# Altium footprint library Connectors.PcbLib: 32 footprints (part 1 of 2)
Each footprint in its own frame and in the unit in brackets; x right, y up, seen from the top. Pads: shape width x height; smd on the part's side, far side on the other; paste and mask are expansions set on the pad; w line width, h text height; cw(c..) or ccw(c..) is an arc to the next point about the centre after c.
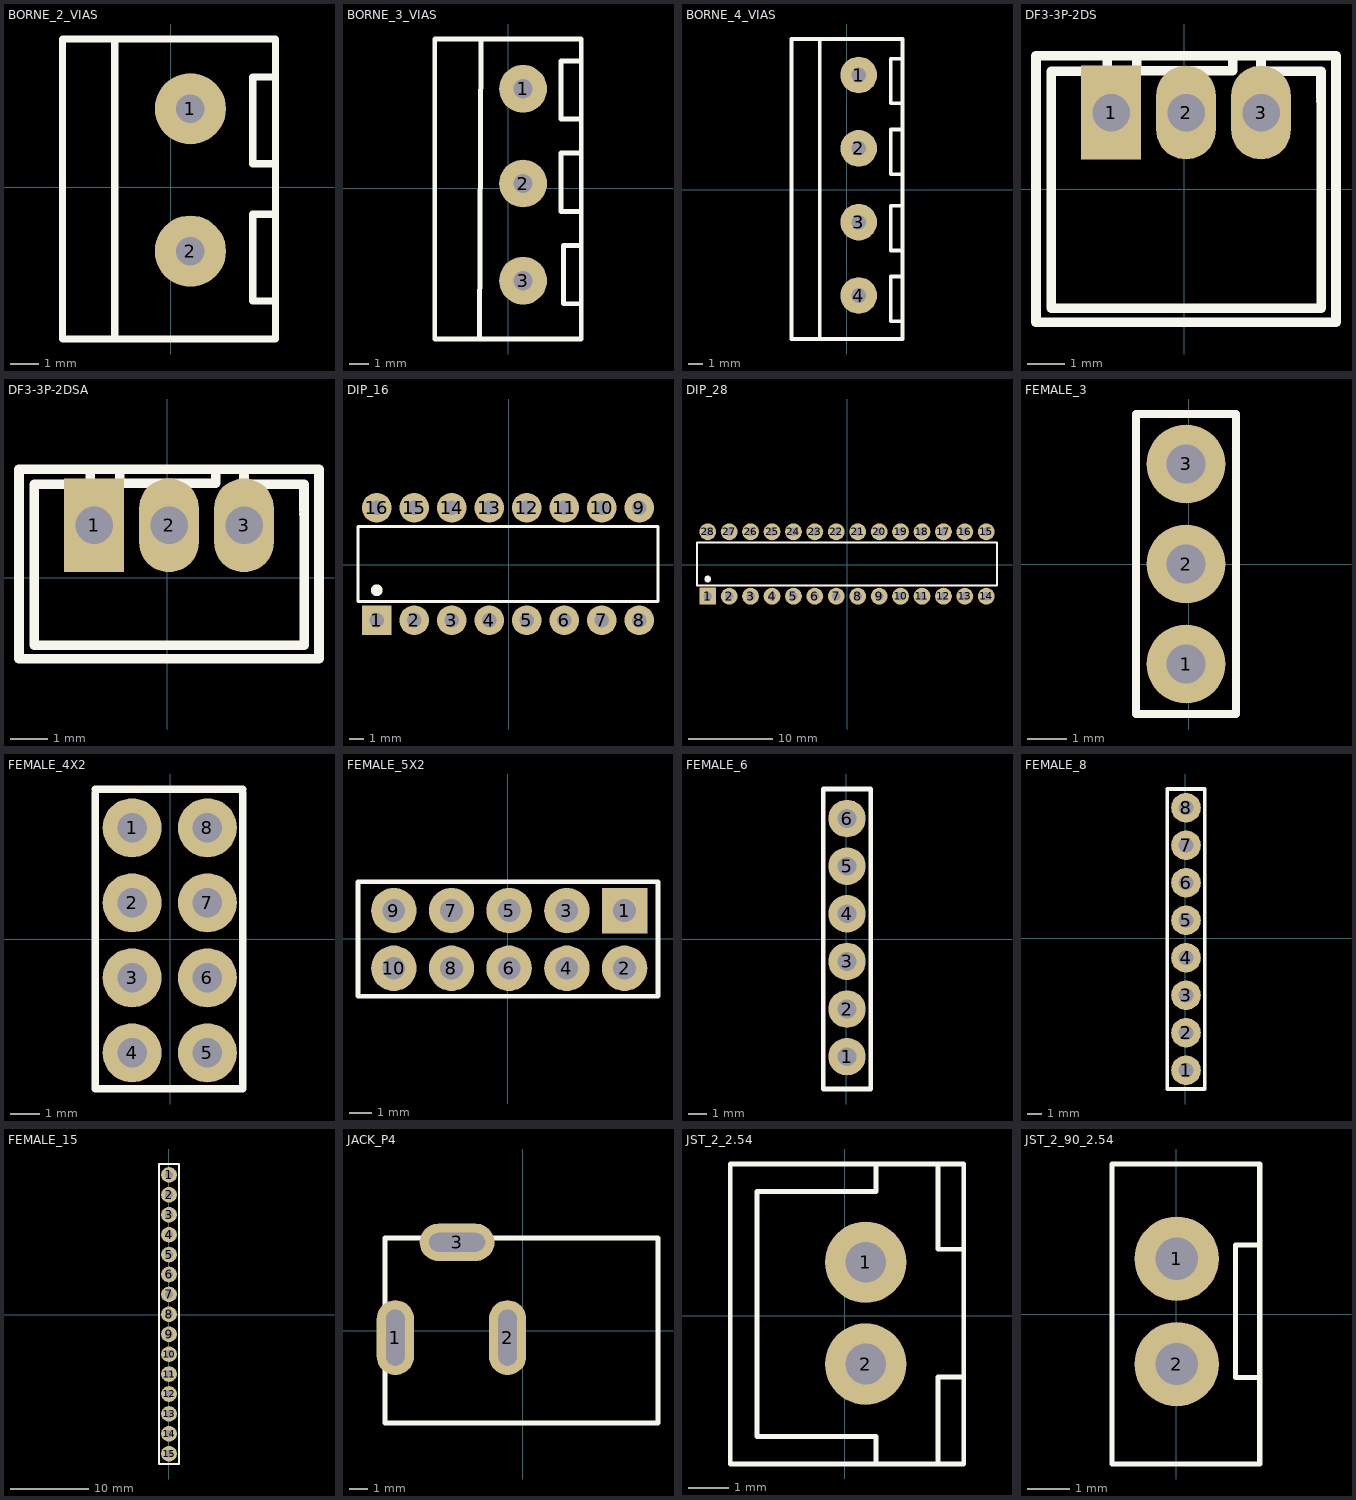
[diagram p0: the footprints below, top view; thin cyan lines are the x and y axes]

## BORNE_2_VIAS [mm]
pads (2):
  round 2.5 hole 1: 1(0.69,2.757) 2(0.69,-2.243)
Top Overlay:
  lines w0.254: -1.968,4.999 -1.968,5.207 ; 3.683,-4 2.875,-4 2.875,-2.476 2.875,-0.953 3.683,-0.953 ; 3.683,0.826 2.875,0.826 2.875,2.349 2.875,3.873 3.683,3.873 ; -1.968,-5.334 -3.81,-5.334 -3.81,5.207 -1.968,5.207 ; -1.968,-5.334 -1.968,5.207 ; -1.968,-5.334 3.683,-5.334 3.683,5.207 -1.968,5.207
3D body "BORNE_2VIAS.step": height 10.1, standoff -2.9, extent -3.927,-5.346 3.673,5.254

## BORNE_3_VIAS [mm]
pads (3):
  round 2.5 hole 1: 1(0.762,5.207) 2(0.762,0.254) 3(0.762,-4.826)
Top Overlay:
  lines w0.254: -1.524,-7.874 -1.443,7.81 ; 3.637,-1.206 2.748,-1.206 2.748,0.318 2.748,1.841 3.637,1.841 ; 3.637,3.619 2.748,3.619 2.748,5.143 2.748,6.667 3.637,6.667 ; 3.764,-6.032 2.875,-6.032 2.875,-4.508 2.875,-2.984 3.764,-2.984 ; -3.856,-7.874 -3.856,7.81 3.804,7.81 3.804,-7.874 -3.856,-7.874
Mechanical 1:
  lines w0.254: 0.635,0.381 0.762,0.254 0.635,0.381
3D body "BORNE_3VIAS.step": height 10.1, standoff -2.9, extent -3.937,-7.927 3.663,7.673

## BORNE_4_VIAS [mm]
pads (4):
  round 2.5 hole 1: 1(0.817,7.837) 2(0.817,2.837) 3(0.817,-2.196) 4(0.817,-7.196)
Top Overlay:
  lines w0.254: -3.771,-10.16 -3.771,10.292 ; -3.715,-10.16 -1.873,-10.16 3.778,-10.16 ; -3.715,10.287 3.81,10.287 ; -1.841,-10.16 -1.841,0.254 ; -1.841,-0.254 -1.841,10.287 ; 0.048,-2.842 0.127,-2.921 ; 3.81,-10.16 3.81,10.292 ; 3.81,-8.954 3.002,-8.954 3.002,-7.429 3.002,-5.905 3.81,-5.905 ; 3.81,-4.127 3.002,-4.127 3.002,-2.603 3.002,-1.079 3.81,-1.079 ; 3.81,1.079 3.002,1.079 3.002,2.603 3.002,4.127 3.81,4.127 ; 3.81,5.905 3.002,5.905 3.002,7.429 3.002,8.954 3.81,8.954
3D body "BORNE_4_VIAS.SLDPRT": height 10.02, standoff -2.99, extent -3.873,-10.239 3.731,10.355

## DF3-3P-2DS [mm]
pads (3):
  rect 1.6x2.5 hole 1: 1(-1.949,2.038)
  oval 1.6x2.5 hole 1: 2(0.051,2.038) 3(2.051,2.038)
Top Overlay:
  lines w0.254: -2.05,3.539 -2.05,3.138 -3.548,3.138 -3.548,-3.175 3.652,-3.175 3.652,2.436 3.651,2.338 ; -1.262,3.538 -1.262,3.158 1.301,3.158 1.301,3.538 ; 2.051,3.539 2.051,3.139 3.651,3.139 3.651,2.438 ; -3.949,-3.556 -3.949,3.556 4.051,3.556 4.051,-3.556 -3.949,-3.556
3D body "DF3-3P-2DS.STEP": height 5.03, standoff -2.87, extent -3.873,-3.644 4.127,3.556

## DF3-3P-2DSA [mm]
pads (3):
  rect 1.6x2.5 hole 1: 1(-1.949,1.403)
  oval 1.6x2.5 hole 1: 2(0.051,1.403) 3(2.051,1.403)
Top Overlay:
  lines w0.254: -2.05,2.904 -2.05,2.503 -3.548,2.503 -3.548,-1.798 3.651,-1.797 ; -1.262,2.903 -1.262,2.523 1.301,2.523 1.301,2.903 ; 2.051,2.904 2.051,2.504 3.651,2.504 3.651,1.803 ; 3.651,1.703 3.652,1.801 3.652,-1.798 ; -3.949,-2.159 4.051,-2.159 4.051,2.903 -3.949,2.903 -3.949,-2.159
3D body "DF3-3P-2DSA.stp": height 5.03, standoff -2.87, extent -3.873,-2.206 4.127,2.794

## DIP_16 [mm]
pads (16):
  rect 2x2 hole 1: 1(-8.937,-3.743)
  round 2 hole 1: 2(-6.397,-3.743) 3(-3.857,-3.743) 4(-1.317,-3.743) 5(1.223,-3.743) 6(3.763,-3.743) 7(6.303,-3.743) 8(8.843,-3.743) 9(8.843,3.877) 10(6.303,3.877) 11(3.763,3.877) 12(1.223,3.877) 13(-1.317,3.877) 14(-3.857,3.877) 15(-6.397,3.877) 16(-8.937,3.877)
Top Overlay:
  circle w0.4: c-8.937,-1.711 r0.2
  lines w0.229: -10.207,-2.473 10.113,-2.473 10.113,2.607 -10.207,2.607 -10.207,-2.473
3D body "dip16.stp": height 5.19, standoff -3.06, extent -10.194,-4.949 10.126,5.211

## DIP_28 [mm]
pads (28):
  rect 2x2 hole 1: 1(-16.523,-3.746)
  round 2 hole 1: 2(-13.983,-3.746) 3(-11.443,-3.746) 4(-8.903,-3.746) 5(-6.363,-3.746) 6(-3.823,-3.746) 7(-1.283,-3.746) 8(1.257,-3.746) 9(3.797,-3.746) 10(6.337,-3.746) 11(8.877,-3.746) 12(11.417,-3.746) 13(13.957,-3.746) 14(16.497,-3.746) 15(16.497,3.873) 16(13.957,3.873) 17(11.417,3.873) 18(8.877,3.873) 19(6.337,3.873) 20(3.797,3.873) 21(1.257,3.873) 22(-1.283,3.873) 23(-3.823,3.873) 24(-6.363,3.873) 25(-8.903,3.873) 26(-11.443,3.873) 27(-13.983,3.873) 28(-16.523,3.873)
Top Overlay:
  circle w0.4: c-16.523,-1.714 r0.2
  lines w0.229: -17.793,-2.476 -17.793,2.603 17.767,2.603 17.767,-2.476 -17.793,-2.476
3D body "DIP28.stp": height 5.2, standoff -3.05, extent -17.78,-5.08 17.78,5.08

## FEMALE_3 [mm]
pads (3):
  round 2 hole 1: 1(-0.064,-2.533) 2(-0.064,0.007) 3(-0.064,2.547)
Top Overlay:
  lines w0.203: 1.206,-1.051 1.206,3.817 ; 1.206,3.817 -1.333,3.817 -1.333,-3.803 1.206,-3.803 1.206,3.817
3D body "FEMALE_HEADER_3.SLDPRT": height 8.5, standoff 0.1, extent -1.257,-3.76 1.143,3.76

## FEMALE_4X2 [mm]
pads (8):
  round 2 hole 1: 1(-1.29,3.766) 2(-1.29,1.226) 3(-1.29,-1.314) 4(-1.29,-3.854) 5(1.26,-3.854) 6(1.26,-1.314) 7(1.26,1.226) 8(1.26,3.766)
Top Overlay:
  lines w0.254: -2.54,4.953 -2.54,-5.08 2.46,-5.08 2.46,4.953 ; -2.54,5.08 -1.29,5.08 1.21,5.08 2.46,5.08
3D body "FEMALE_HEADER_4X2.SLDPRT": height 8.6, standoff 0, extent -2.29,-4.81 2.25,4.81

## FEMALE_5X2 [mm]
pads (10):
  rect 2x2 hole 1: 1(5.132,1.234)
  round 2 hole 1: 2(5.132,-1.306) 3(2.592,1.234) 4(2.592,-1.306) 5(0.052,1.234) 6(0.052,-1.306) 7(-2.488,1.234) 8(-2.488,-1.306) 9(-5.028,1.234) 10(-5.028,-1.306)
Top Overlay:
  lines w0.2: -6.604,-2.54 6.604,-2.54 6.604,2.504 -6.604,2.504 -6.604,-2.54
3D body "FEMALE_HEADER_5X2.stp": height 8.5, standoff -3, extent -6.6,-2.5 6.6,2.5

## FEMALE_6 [mm]
pads (6):
  round 2 hole 1: 1(0.045,-6.275) 2(0.045,-3.735) 3(0.045,-1.195) 4(0.045,1.345) 5(0.045,3.885) 6(0.045,6.425)
Top Overlay:
  lines w0.254: -1.225,-8.001 1.315,-8.001 1.315,8.001 -1.225,8.001 -1.225,-8.001
3D body "FEMALE_HEADER_6.stp": height 8.3, standoff -3.2, extent -1.143,-8.05 1.257,8.05

## FEMALE_8 [mm]
pads (8):
  round 2 hole 1: 1(0.045,-8.942) 2(0.045,-6.402) 3(0.045,-3.862) 4(0.045,-1.322) 5(0.045,1.218) 6(0.045,3.758) 7(0.045,6.298) 8(0.045,8.838)
Top Overlay:
  lines w0.254: -1.225,-10.212 1.315,-10.212 1.315,10.108 -1.225,10.108 -1.225,-10.212
3D body "FEMALE_HEADER_8.SLDPRT": height 8.5, standoff 0.1, extent -1.143,-10.16 1.257,10.16

## FEMALE_15 [mm]
pads (15):
  round 2 hole 1: 1(0.042,17.818) 2(0.042,15.278) 3(0.042,12.738) 4(0.042,10.198) 5(0.042,7.658) 6(0.042,5.118) 7(0.042,2.578) 8(0.042,0.038) 9(0.042,-2.502) 10(0.042,-5.042) 11(0.042,-7.582) 12(0.042,-10.122) 13(0.042,-12.662) 14(0.042,-15.202) 15(0.042,-17.742)
Top Overlay:
  lines w0.254: -1.208,-19.05 -1.208,19.208 1.292,19.208 1.292,-19.05 -1.208,-19.05
3D body "FEMALE_HEADER_15.SLDPRT": height 8.5, standoff 0.1, extent -1.073,-19.096 1.327,19.304

## JACK_P4 [mm]
pads (3):
  oval 2x4 hole 1 slot 3 at 90 deg: 1(-6.81,-0.381) 2(-0.81,-0.381)
  oval 4x2 hole 1 slot 3 at 0 deg: 3(-3.51,4.719)
Top Overlay:
  lines w0.254: -7.366,-4.953 7.239,-4.953 7.239,4.953 -7.366,4.953 -7.366,-4.953
3D body "PCM DC Power Jack 2mm Pin.STEP": height 11.38, standoff -4.72, extent -7.331,-4.98 7.169,4.82

## JST_2_2.54 [mm]
pads (2):
  round 2 hole 1: 1(0.513,1.311) 2(0.513,-1.189)
Top Overlay:
  lines w0.12: 0.762,-3.642 0.762,-2.966 -2.159,-2.966 -2.159,3.048 0.762,3.048 0.762,3.724 ; 2.286,-3.642 2.286,-1.509 2.863,-1.509 ; 2.286,3.724 2.286,1.631 2.863,1.631 ; -2.812,-3.642 -2.812,3.724 2.921,3.724 2.921,-3.642 -2.812,-3.642
3D body "User Library-JST B2B-XH-A.step": height 7.05, standoff -3.35, extent -2.812,-3.642 2.938,3.758

## JST_2_90_2.54 [mm]
pads (2):
  round 2 hole 1: 1(0.005,1.311) 2(0.005,-1.189)
Top Overlay:
  lines w0.12: 1.974,-3.556 1.974,3.556 ; 1.974,-1.509 1.397,-1.509 1.397,1.631 1.974,1.631 ; 1.976,-3.556 -1.524,-3.556 -1.524,3.556 1.976,3.556
3D body "JST_2_90_2.54.stp": height 5.84, standoff -3.38, extent -0.376,-3.607 7.661,3.607